# EAGLE library part BM11B-NSHSS-TBT (library NSH)
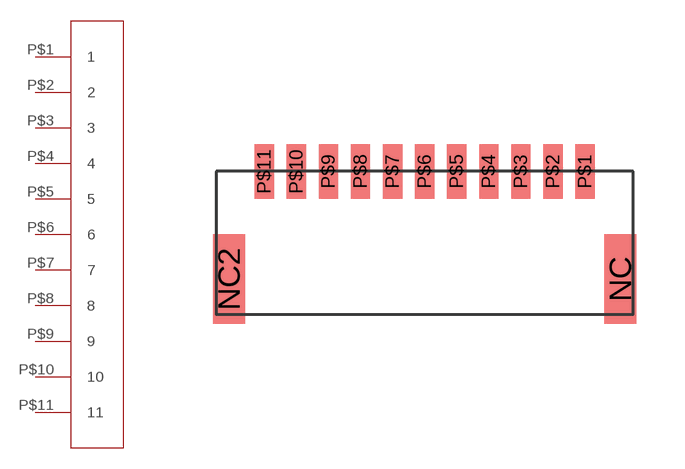
[diagram p5: symbol with the pads of BM11B-NSHSS-TBT; footprint BM11B-NSHSS-TBT]

Designator prefix -

## BM11B-NSHSS-TBT  [BM11B-NSHSS-TBT]
P$1  1
P$2  2
P$3  3
P$4  4
P$5  5
P$6  6
P$7  7
P$8  8
P$9  9
P$10  10
P$11  11

## Footprint BM11B-NSHSS-TBT (pad centres in mm)
smd 1 x 2.8: NC 6.1,1.4; NC2 -6.1,1.4
smd 0.6 x 1.7: P$1 5,4.75; P$2 4,4.75; P$3 3,4.75; P$4 2,4.75; P$5 1,4.75; P$6 0,4.75; P$7 -1,4.75; P$8 -2,4.75; P$9 -3,4.75; P$10 -4,4.75; P$11 -5,4.75